# EAGLE library part MAX6675 (library SparkFun-Retired)
Cold-Junction-Compensated K-Thermocoupleto-Digital Converter (0°C to +1024°C) The MAX6675 performs cold-junction compensation and digitizes the signal from a type-K thermocouple. The data is output in a 12-bit resolution, SPI™-compatible, read-only format. This converter resolves temperatures to 0.25°C, allows readings as high as +1024°C, and exhibits thermocouple accuracy of 8LSBs for temperatures ranging from 0°C to +700°C. Dead Prototype: IC-12512
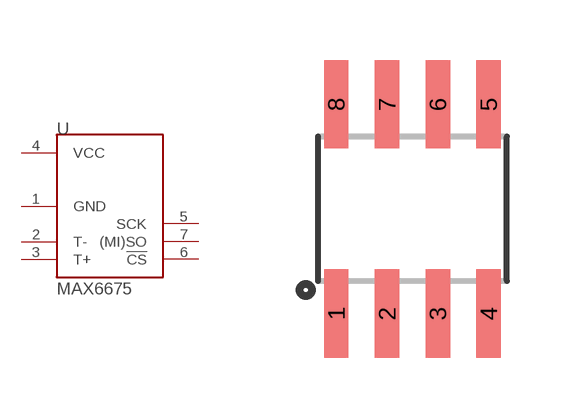
[diagram p62: symbol with the pads of SOIC8; footprint SOIC8]

Designator prefix U

## MAX6675 (PROD_ID: IC-12512)  [SOIC8]
1  GND
2  T-
3  T+
4  VCC
5  SCK
6  !CS
7  (MI)SO

## Footprint SOIC8 (pad centres in mm)
smd 0.61 x 2.21: 1 -1.905,-2.616; 2 -0.635,-2.616; 3 0.635,-2.616; 4 1.905,-2.616; 5 1.905,2.616; 6 0.635,2.616; 7 -0.635,2.616; 8 -1.905,2.616